# Altium schematic symbol library MODULE.SchLib: 1 symbol
Pins are listed as number, name and electrical type; pins without a type are passive.

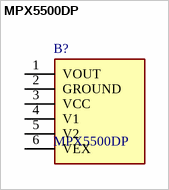
[diagram p0: symbol MPX5500DP]

## MPX5500DP
designator B?
Board Mount Pressure Sensors; Manufacturer_Name: NXP; Geometry.Height: 29.34mm; Mouser Part Number: 841-MPX5500DP; Mouser Price/Stock: https://www.mouser.co.uk/ProductDetail/NXP-Semiconductors/MPX5500DP?qs=N2XN0KY4UWXVyfD7gX%252Bjcg%3D%3D; Manufacturer_Part_Number: MPX5500DP; Datasheet Link: https://www.nxp.com/docs/en/data-sheet/MPX5500.pdf
pins: 1 VOUT, 2 GROUND, 3 VCC, 4 V1, 5 V2, 6 VEX